# Altium footprint library PowerInductors.PCBLIB: 52 footprints (part 3 of 4)
Each footprint in its own frame and in the unit in brackets; x right, y up, seen from the top. Pads: shape width x height; smd on the part's side, far side on the other; paste and mask are expansions set on the pad; w line width, h text height; cw(c..) or ccw(c..) is an arc to the next point about the centre after c.
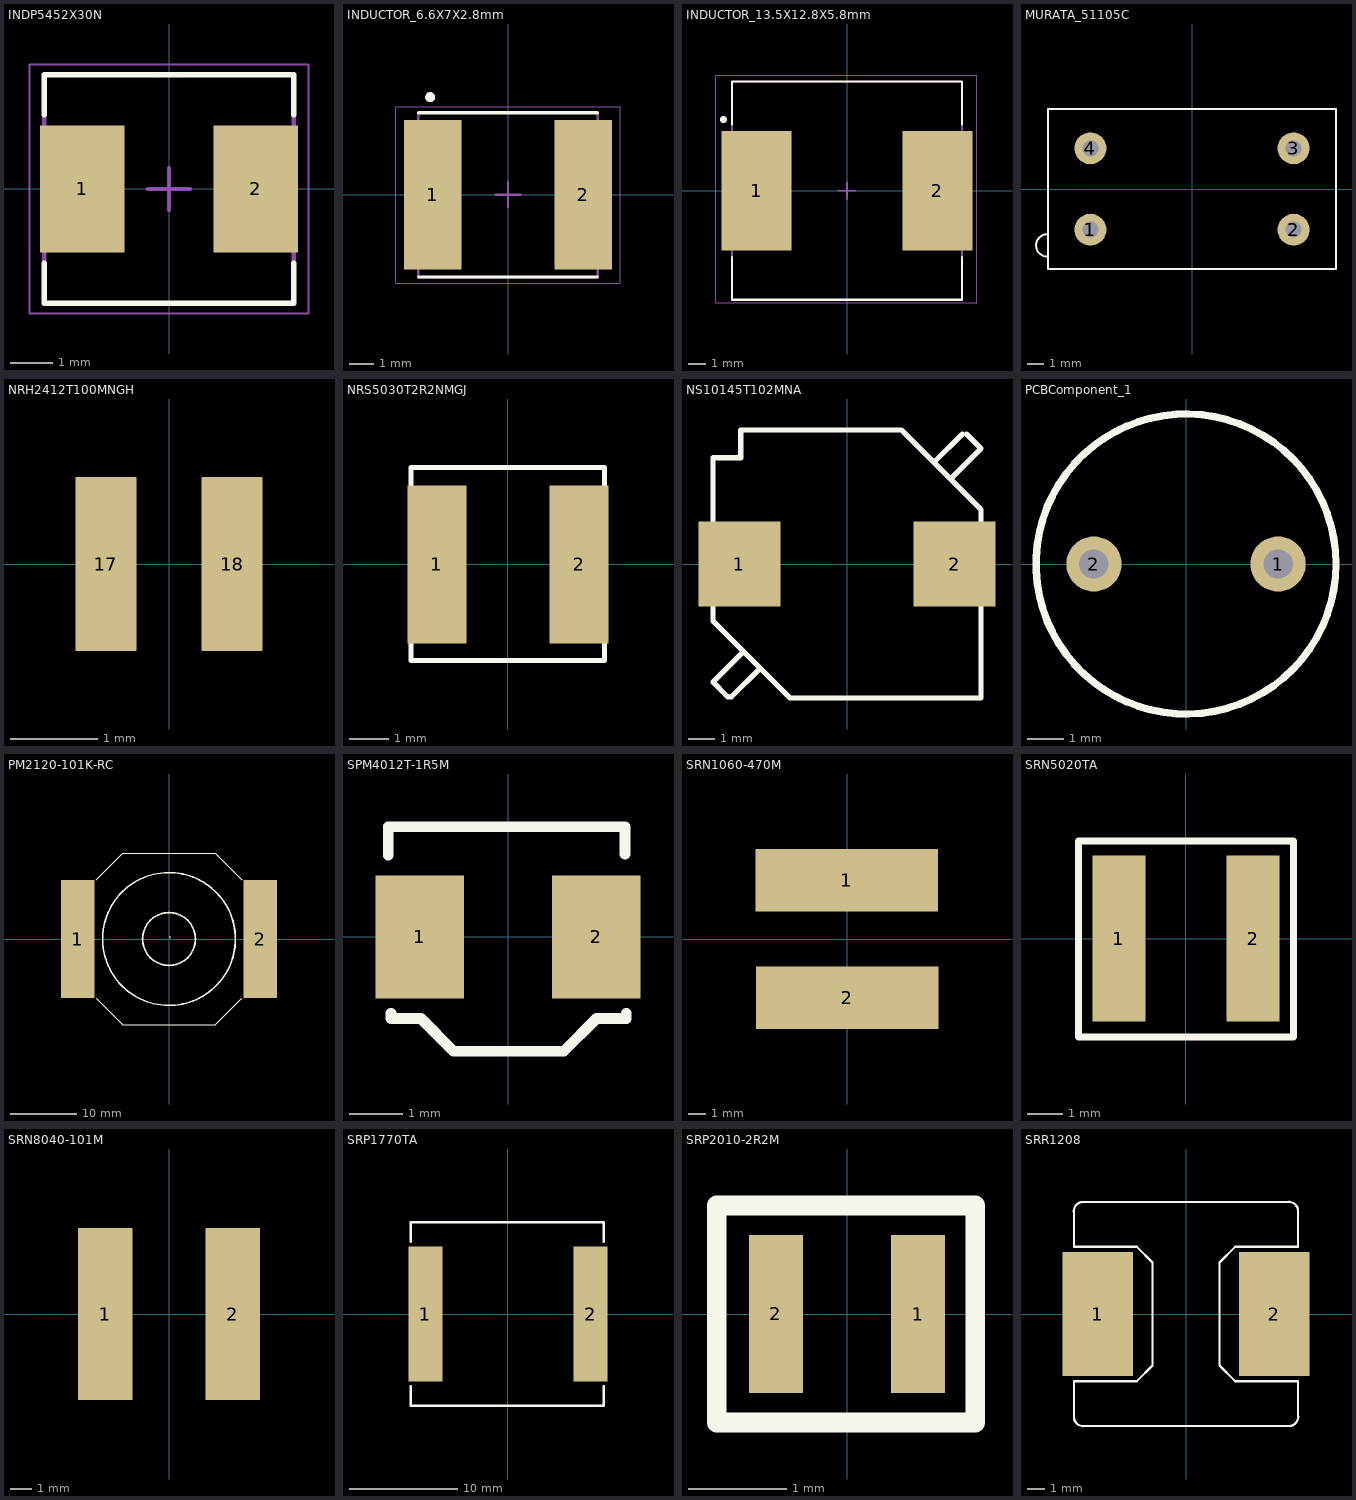
[diagram p2: the footprints below, top view; thin cyan lines are the x and y axes]

## INDP5452X30N [mm] "Precision Wire Wound Inductor, 2-Leads, Body 5,40x5,20mm, IPC Medium Density"
height 3
pads (2):
  rect 2x3 smd: 1(-2.05,0) 2(2.05,0)
Top Overlay:
  lines w0.127: -2.95,-1.75 -2.95,-2.7 2.95,-2.7 2.95,-1.75 ; -2.95,1.75 -2.95,2.7 2.95,2.7 2.95,1.75
Mechanical 13:
  lines w0.1: -2.95,-2.7 -2.95,2.7 2.95,2.7 2.95,-2.7 -2.95,-2.7
Mechanical 15:
  lines w0.05: -3.3,-2.95 -3.3,2.95 3.3,2.95 3.3,-2.95 -3.3,-2.95
  lines w0.1: -0.5,0 0.5,0 ; 0,-0.5 0,0.5
3D body "WE-LHMI_5030+%28rev1%29.stp": height 2.8, standoff 0, extent -2.85,-2.6 2.85,2.6

## INDUCTOR_6.6X7X2.8mm [mm]
pads (2):
  rect 2.3x6 smd: 1(-3.025,0) 2(3.025,0)
Top Overlay:
  circle w0.2: c-3.125,3.925 r0.1
  lines w0.127: -3.6,-3.3 3.6,-3.3 ; -3.6,3.3 3.6,3.3
Mechanical 1:
  circle w0.2: c-3.125,3.925 r0.1
Mechanical 13:
  lines w0.1: -3.6,-3.3 3.6,-3.3 3.6,3.3 -3.6,3.3 -3.6,-3.3
Mechanical 15:
  lines w0.05: -4.5,-3.55 -4.5,3.55 4.5,3.55 4.5,-3.55 -4.5,-3.55
  lines w0.1: -0.5,0 0.5,0 ; 0,-0.5 0,0.5
3D body "User Library-MWSA0603S.STEP": height 2.85, standoff 0.05, extent -3.6,-3.3 3.6,3.3

## INDUCTOR_13.5X12.8X5.8mm [mm]
pads (2):
  rect 4.1x7 smd: 1(-5.3,0) 2(5.3,0)
Top Overlay:
  circle w0.2: c-7.25,4.175 r0.1
  lines w0.127: -6.75,-3.9 -6.75,-6.4 6.75,-6.4 6.75,-3.9 ; -6.75,3.9 -6.75,6.4 6.75,6.4 6.75,3.9
Mechanical 1:
  circle w0.2: c-7.25,4.175 r0.1
Mechanical 13:
  lines w0.1: -6.75,-6.4 -6.75,6.4 6.75,6.4 6.75,-6.4 -6.75,-6.4
Mechanical 15:
  lines w0.05: -7.7,-6.575 7.625,-6.575 7.625,6.775 -7.7,6.775 -7.7,-6.575
  lines w0.1: -0.5,0 0.5,0 ; 0,-0.5 0,0.5
3D body "SRP1265A series.stp": height 6.51, standoff 0.2, extent -6.45,-6.25 6.45,6.25

## MURATA_51105C [mm]
pads (4):
  round 2 hole 1: 1(-6.35,-2.54) 2(6.35,-2.54) 3(6.35,2.54) 4(-6.35,2.54)
Top Overlay:
  lines w0.127: -9.05,-4.225 cw(c-9.05,-3.525) -9.022,-2.826 ; -9,-5 -9,5 9,5 9,-5 -9,-5
3D body "mps_mag_5100_thd_a.step": height 21.13, standoff -3.74, extent -9.78,-5.026 8.97,5.024

## NRH2412T100MNGH [mm]
pads (2):
  rect 0.7x2 smd: 17(-0.725,0) 18(0.725,0)

## NRS5030T2R2NMGJ [mm]
pads (2):
  rect 1.5x4 smd: 1(-1.8,0) 2(1.8,0)
Top Overlay:
  lines w0.127: -2.46,-2.438 -2.46,2.462 2.44,2.462 2.44,-2.438 -2.46,-2.438
3D body: height 3.1, standoff 0, extent -2.257,-2.235 2.239,2.349

## NS10145T102MNA [mm] "FIXED IND 1MH 320MA 3.096 OHM"
height 4.85
pads (2):
  rect 3.1x3.2 smd: 1(-4.05,0) 2(4.05,0)
Top Overlay:
  lines w0.2: -3.9,-3.3 -5.05,-4.45 -4.5,-5 -4.35,-5 -3.3,-3.95 -3.3,-3.9 ; 3.3,3.85 4.35,4.9 ; 3.9,3.2 5.05,4.35 4.5,4.9 ; -5.05,-2.15 -5.05,4 -4,4 -4,5.05 2.05,5.05 5.05,2.05 5.05,-5.05 -2.15,-5.05 -5.05,-2.15
3D body "IND_YUDEN_NS10145.step": height 4.84, standoff -0.01, extent -5.207,-5.21 5.207,5.21

## PCBComponent_1 [mm]
pads (2):
  round 1.5 hole 0.8: 1(2.5,0) 2(-2.5,0)
Top Overlay:
  circle w0.2: c0,0 r4.072
3D body "STEP-WE-TI-8095_US-rev1.stp": height 9.71, standoff -4.99, extent -5.78,-5.82 5.816,5.776

## PM2120-101K-RC [mm]
pads (2):
  rect 5.1x17.8 smd: 1(-13.8,0) 2(13.8,0)
Top Overlay:
  circle w0.254: c0,0 r4
  circle w0.254: c0,0 r10.05
  lines w0.127: -11,-9 -7,-13 7,-13 11,-9 ; -11,9 -7,13 7,13 11,9 ; 0.2,0.1 0.2,0.4
3D body "69091.stp": height 22.08, standoff -0.02, extent -15.25,-12.7 15.25,12.7

## SPM4012T-1R5M [mm]
pads (2):
  rect 1.65x2.3 smd: 1(-1.65,0) 2(1.65,0)
Top Overlay:
  lines w0.2: -2.235,1.524 -2.235,2.058 2.184,2.058 2.184,1.55 ; -2.184,-1.422 -2.184,-1.524 -1.626,-1.524 -1.016,-2.133 1.041,-2.133 1.651,-1.524 2.21,-1.524 2.21,-1.422
Mechanical 13:
  text "*" at -1.692,0 h0.74
3D body: height 0.7, standoff 0.3, extent -2.028,-1.676 -1.63,-1.276
3D body: height 0.7, standoff 0.3, extent 1.68,-1.701 2.078,-1.302
3D body: height 0.6, standoff 0, extent -2.286,-1.168 -2.159,1.169
3D body: height 0.6, standoff 0, extent 2.184,-1.168 2.311,1.169
3D body: height 1.2, standoff 0.1, extent -2.197,-2.12 2.197,2.071

## SRN1060-470M [mm]
pads (2):
  rect 10.2x3.5 smd: 1(-0.013,3.302) 2(0.013,-3.302)
3D body "srn1060.stp": height 6.01, standoff 0.01, extent -5,-4.9 5,4.9

## SRN5020TA [mm]
pads (2):
  rect 1.5x4.7 smd: 1(-1.9,0) 2(1.9,0)
Top Overlay:
  lines w0.2: -3.048,-2.794 3.048,-2.794 3.048,2.769 -3.048,2.769 -3.048,-2.794
3D body "SRN5020TA.stp": height 1.91, standoff 0.05, extent -2.45,-2.475 2.5,2.475

## SRN8040-101M [mm] "0.315\" L x 0.315\" A (8.00 mm x 8.00 mm) / 0.157\" (4.00 mm)H"
pads (2):
  rect 2.6x8.2 smd: 1(-3.048,0) 2(3.048,0)
3D body "srn8040.stp": height 4, standoff 0, extent -3.746,-4 4.254,4

## SRP1770TA [mm]
pads (2):
  rect 3.15x12.5 smd: 1(-7.675,0) 2(7.675,0)
Top Overlay:
  lines w0.254: -9.017,-6.731 -9.017,-8.509 8.89,-8.509 8.89,-6.731 ; -9.017,6.731 -9.017,8.509 8.89,8.509 8.89,6.731
3D body "SRP1770TA.stp": height 6.81, standoff 0, extent -8.989,-8.47 8.911,8.43

## SRP2010-2R2M [mm]
pads (2):
  rect 0.55x1.6 smd: 1(0.721,-0.001) 2(-0.721,0.001)
Top Overlay:
  lines w0.2: -1.32,-1.1 1.3,-1.1 1.3,1.1 -1.32,1.1 -1.32,-1.1
3D body "SRP2010 series.stp": height 1.01, standoff 0.01, extent -0.999,-0.801 1.001,0.799

## SRR1208 [mm]
pads (2):
  rect 4x7 smd: 1(-5,0) 2(5,0)
Top Overlay:
  lines w0.127: -6.35,-5.8 ccw(c-5.823,-5.827) -5.75,-6.35 5.8,-6.35 ccw(c5.827,-5.823) 6.35,-5.75 6.35,-3.81 2.794,-3.81 1.9,-2.916 1.9,2.916 2.794,3.81 6.35,3.81 6.35,5.8 ccw(c5.823,5.827) 5.75,6.35 -5.8,6.35 ccw(c-5.827,5.823) -6.35,5.75 -6.35,3.81 -2.794,3.81 -1.9,2.916 -1.9,-2.916 -2.794,-3.81 -6.35,-3.81 -6.35,-5.8
3D body "7447709331.step": height 10.39, standoff 0.01, extent -6,-5.969 6,6.031